# EAGLE library part TPA2054D4_YZK_25 (library Texas Instruments)
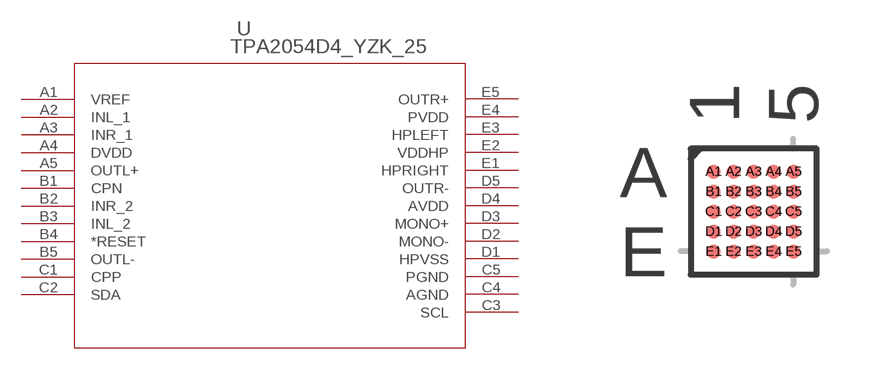
[diagram p21: symbol with the pads of YZK25; footprint YZK25]

Designator prefix U

## TPA2054D4_YZK_25 (DATASHEETURL: http://www.ti.com/lit/gpn/TPA2054D4; DESCRIPTION: 2.4 W/Ch 3-Input Audio Subsystem with Stereo Class-D and DirectPath&#153 Headphone Amplifier; FAMILY_NAME: AUDIO SUBSYSTEM; GENERIC_PART_NUMBER: TPA2054D4; INDUSTRY_STD_PKG_TYPE: DSBGA; MANUFACTURER: Texas Instruments; MANUFACTURER_PART_NUMBER: tpa2054d4_yzk_25; PACKAGE_DESIGNATOR: YZK; PIN_COUNT: 25; VENDOR: Texas Instruments)  [YZK25]
A1  VREF  in
A2  INL_1  in
A3  INR_1  in
A4  DVDD  pwr
A5  OUTL+  out
B1  CPN  pwr
B2  INR_2  in
B3  INL_2  in
B4  *RESET  in
B5  OUTL-  out
C1  CPP  pwr
C2  SDA
C3  SCL
C4  AGND  pwr
C5  PGND  pwr
D1  HPVSS  pwr
D2  MONO-  in
D3  MONO+  in
D4  AVDD  pwr
D5  OUTR-  out
E1  HPRIGHT  out
E2  VDDHP  pwr
E3  HPLEFT  out
E4  PVDD  pwr
E5  OUTR+  out

## Footprint YZK25 (pad centres in mm)
smd 0.356 x 0.356: A1 -1,1; A2 -0.5,1; A3 0,1; A4 0.5,1; A5 1,1; B1 -1,0.5; B2 -0.5,0.5; B3 0,0.5; B4 0.5,0.5; B5 1,0.5; C1 -1,0; C2 -0.5,0; C3 0,0; C4 0.5,0; C5 1,0; D1 -1,-0.5; D2 -0.5,-0.5; D3 0,-0.5; D4 0.5,-0.5; D5 1,-0.5; E1 -1,-1; E2 -0.5,-1; E3 0,-1; E4 0.5,-1; E5 1,-1